# EAGLE library part SI8621AB-B-ISR (library APU_ENGR480_UPS_EAGLE_Library)
Digital Isolators 2.5 kV 1 forward & 1 reverse 2-channel isolator Source: Datasheet <https://www.silabs.com/documents/public/data-sheets/si86xx-1Mbps-datasheet.pdf>
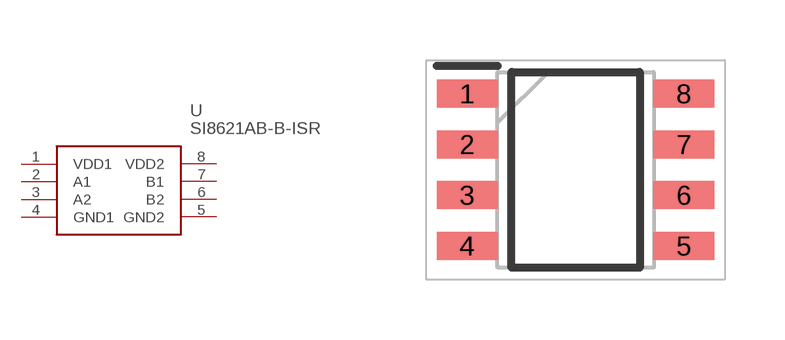
[diagram p7: symbol with the pads of SOIC127P600X175-8N; footprint SOIC127P600X175-8N]

Designator prefix U

## SI8621AB-B-ISR (DESCRIPTION: Digital Isolators 2.5 kV 1 forward & 1 reverse 2-channel isolator; HEIGHT: 1.75mm; MANUFACTURER_NAME: Silicon Labs; MANUFACTURER_PART_NUMBER: Si8621AB-B-ISR; MOUSER_PART_NUMBER: 634-SI8621AB-B-ISR; MOUSER_PRICE-STOCK: https://www.mouser.com/Search/Refine.aspx?Keyword=634-SI8621AB-B-ISR)  [SOIC127P600X175-8N]
1  VDD1
2  A1
3  A2
4  GND1
5  GND2
6  B2
7  B1
8  VDD2

## Footprint SOIC127P600X175-8N (pad centres in mm)
Si8621AB-B-ISR
smd 1.525 x 0.7: 1 -2.712,1.905; 2 -2.712,0.635; 3 -2.712,-0.635; 4 -2.712,-1.905; 5 2.712,-1.905; 6 2.712,-0.635; 7 2.712,0.635; 8 2.712,1.905